# Altium schematic symbol library Schlib1.SchLib: 3 symbols
Pins are listed as number, name and electrical type; pins without a type are passive.

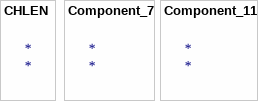
[diagram p0: symbols CHLEN to Component_11]

## CHLEN
designator *

## Component_7
designator *

## Component_11
designator *